# Altium schematic symbol library Molex-Microfit.SCHLIB: 36 symbols
Pins are listed as number, name and electrical type; pins without a type are passive.

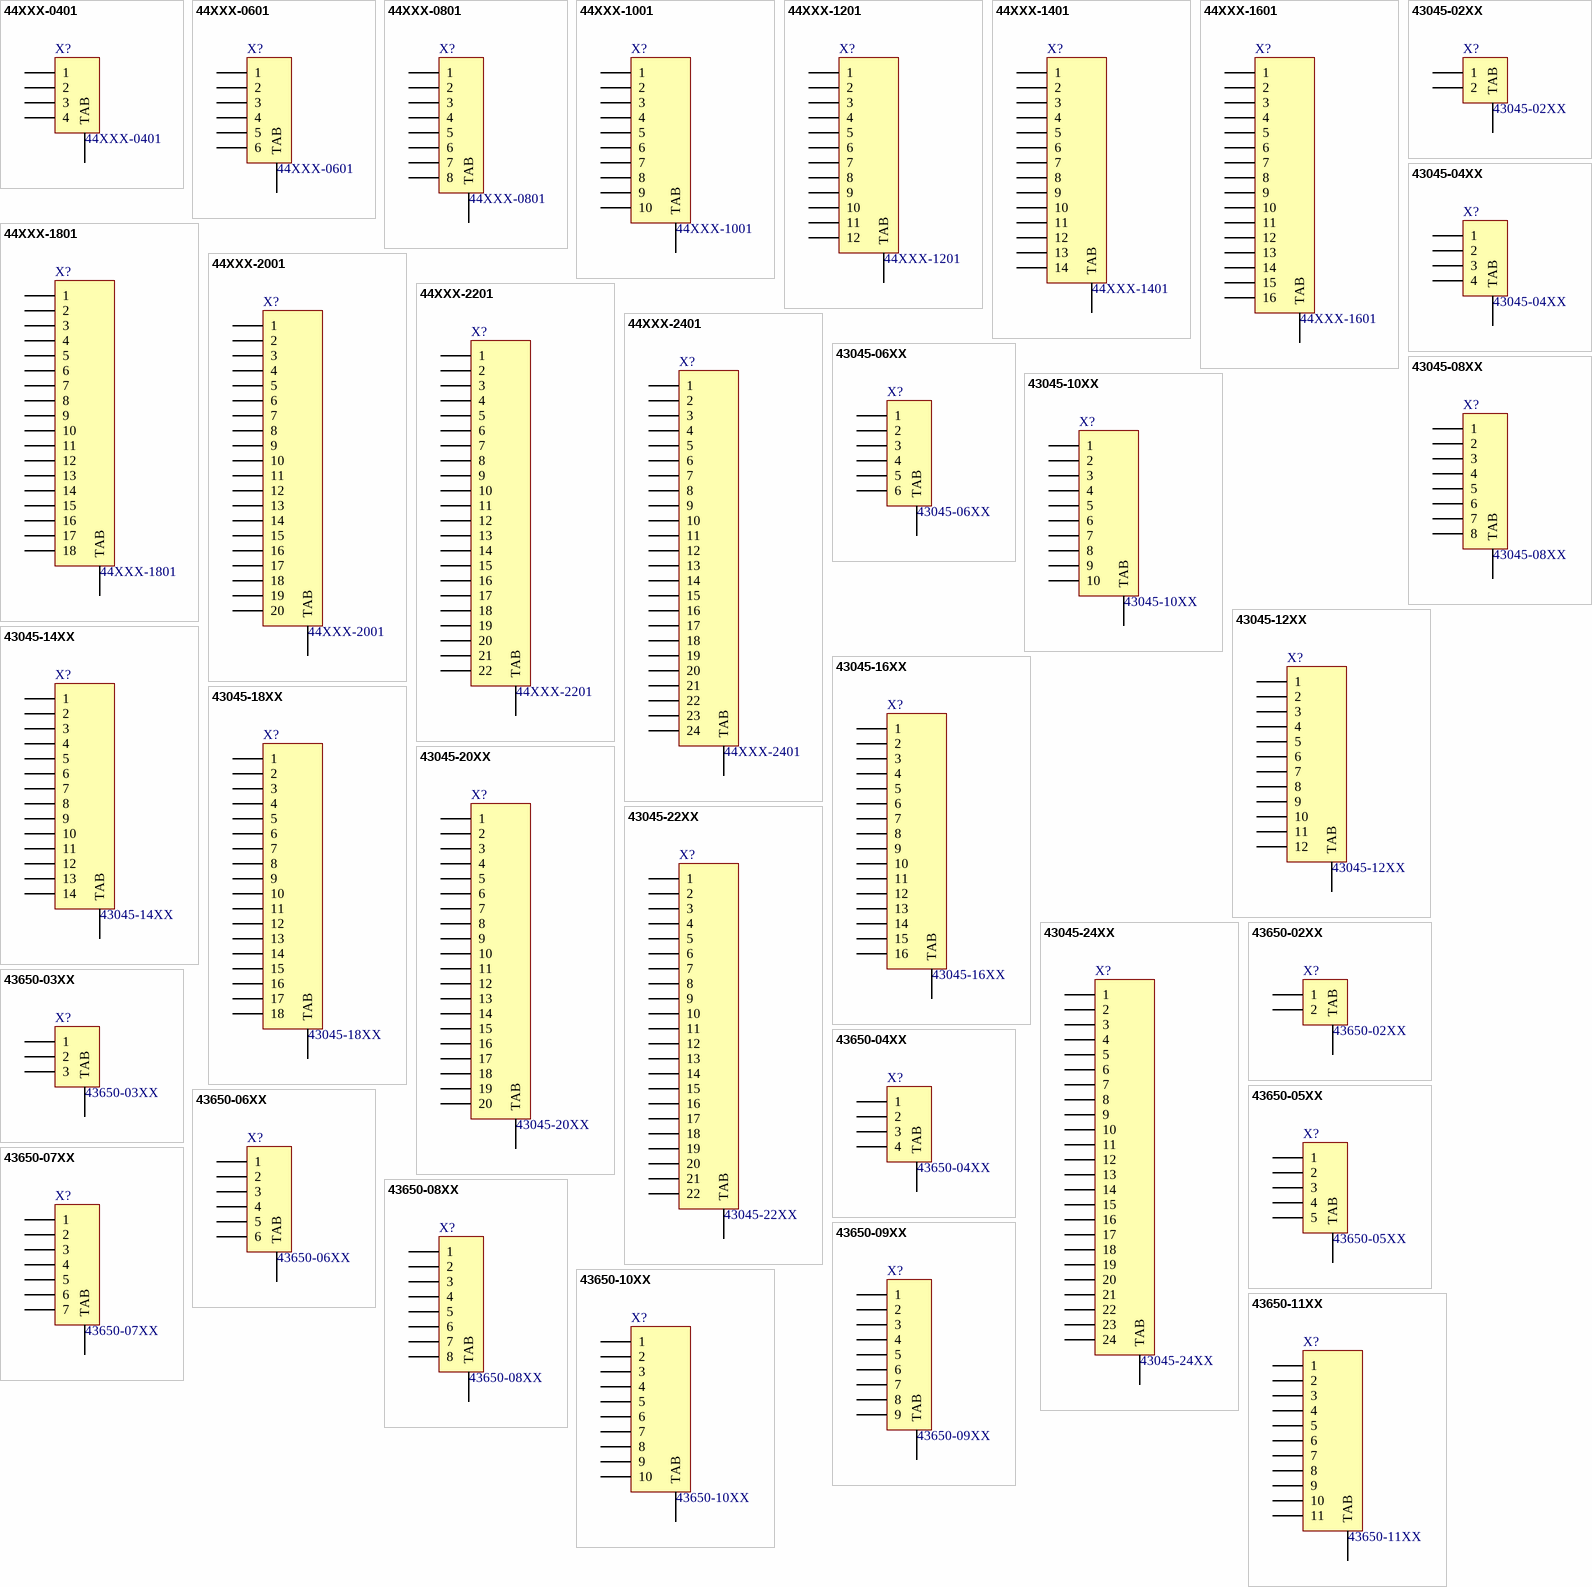
[diagram p0: symbols 44XXX-0401 to 43650-11XX]

## 44XXX-0401
designator X?
Manuf1: Molex LCC; Populated: Yes; LifeCycle: Checked; Manuf1Partnumber: 44XXX-0401; ROHS: Yes; Value: 44XXX-0401
footprint 44428-0401
footprint 44432-0401
footprint 44764-0401
footprint 44769-0401
footprint 44914-0401
pins: P$1 1, P$2 2, P$3 3, P$4 4, TAB

## 44XXX-0601
designator X?
Manuf1: Molex LCC; Populated: Yes; LifeCycle: Checked; Manuf1Partnumber: 44XXX-0601; ROHS: Yes; Value: 44XXX-0601
footprint 44428-0601
footprint 44432-0601
footprint 44764-0601
footprint 44769-0601
footprint 44914-0601
pins: P$1 1, P$2 2, P$3 3, P$4 4, P$5 5, P$6 6, TAB

## 44XXX-0801
designator X?
Manuf1: Molex LCC; Populated: Yes; LifeCycle: Checked; Manuf1Partnumber: 44XXX-0801; ROHS: Yes; Value: 44XXX-0801
footprint 44428-0801
footprint 44432-0801
footprint 44764-0801
footprint 44769-0801
footprint 44914-0801
pins: P$1 1, P$2 2, P$3 3, P$4 4, P$5 5, P$6 6, P$7 7, P$8 8, TAB

## 44XXX-1001
designator X?
Manuf1: Molex LCC; Populated: Yes; LifeCycle: Checked; Manuf1Partnumber: 44XXX-1001; ROHS: Yes; Value: 44XXX-1001
footprint 44428-1001
footprint 44432-1001
footprint 44764-1001
footprint 44769-1001
footprint 44914-1001
pins: P$1 1, P$2 2, P$3 3, P$4 4, P$5 5, P$6 6, P$7 7, P$8 8, P$9 9, P$10 10, TAB

## 44XXX-1201
designator X?
Manuf1: Molex LCC; Populated: Yes; LifeCycle: Checked; Manuf1Partnumber: 44XXX-1201; ROHS: Yes; Value: 44XXX-1201
footprint 44428-1201
footprint 44432-1201
footprint 44764-1201
footprint 44769-1201
footprint 44914-1201
pins: P$1 1, P$2 2, P$3 3, P$4 4, P$5 5, P$6 6, P$7 7, P$8 8, P$9 9, P$10 10, P$11 11, P$12 12, TAB

## 44XXX-1401
designator X?
Manuf1: Molex LCC; Populated: Yes; LifeCycle: Checked; Manuf1Partnumber: 44XXX-1401; ROHS: Yes; Value: 44XXX-1401
footprint 44428-1401
footprint 44432-1401
footprint 44764-1401
footprint 44769-1401
footprint 44914-1401
pins: P$1 1, P$2 2, P$3 3, P$4 4, P$5 5, P$6 6, P$7 7, P$8 8, P$9 9, P$10 10, P$11 11, P$12 12, P$13 13, P$14 14, TAB

## 44XXX-1601
designator X?
Manuf1: Molex LCC; Populated: Yes; LifeCycle: Checked; Manuf1Partnumber: 44XXX-1601; ROHS: Yes; Value: 44XXX-1601
footprint 44428-1601
footprint 44432-1601
footprint 44764-1601
footprint 44769-1601
footprint 44914-1601
pins: P$1 1, P$2 2, P$3 3, P$4 4, P$5 5, P$6 6, P$7 7, P$8 8, P$9 9, P$10 10, P$11 11, P$12 12, P$13 13, P$14 14, P$15 15, P$16 16, TAB

## 44XXX-1801
designator X?
Manuf1: Molex LCC; Populated: Yes; LifeCycle: Checked; Manuf1Partnumber: 44XXX-1801; ROHS: Yes; Value: 44XXX-1801
footprint 44428-1801
footprint 44432-1801
footprint 44764-1801
footprint 44769-1801
footprint 44914-1801
pins: P$1 1, P$2 2, P$3 3, P$4 4, P$5 5, P$6 6, P$7 7, P$8 8, P$9 9, P$10 10, P$11 11, P$12 12, P$13 13, P$14 14, P$15 15, P$16 16, P$17 17, P$18 18, TAB

## 44XXX-2001
designator X?
Manuf1: Molex LCC; Populated: Yes; LifeCycle: Checked; Manuf1Partnumber: 44XXX-2001; ROHS: Yes; Value: 44XXX-2001
footprint 44428-2001
footprint 44432-2001
footprint 44764-2001
footprint 44769-2001
footprint 44914-2001
pins: P$1 1, P$2 2, P$3 3, P$4 4, P$5 5, P$6 6, P$7 7, P$8 8, P$9 9, P$10 10, P$11 11, P$12 12, P$13 13, P$14 14, P$15 15, P$16 16, P$17 17, P$18 18, P$19 19, P$20 20, TAB

## 44XXX-2201
designator X?
Manuf1: Molex LCC; Populated: Yes; LifeCycle: Checked; Manuf1Partnumber: 44XXX-2201; ROHS: Yes; Value: 44XXX-2201
footprint 44428-2201
footprint 44432-2201
footprint 44764-2201
footprint 44769-2201
footprint 44914-2201
pins: P$1 1, P$2 2, P$3 3, P$4 4, P$5 5, P$6 6, P$7 7, P$8 8, P$9 9, P$10 10, P$11 11, P$12 12, P$13 13, P$14 14, P$15 15, P$16 16, P$17 17, P$18 18, P$19 19, P$20 20, P$21 21, P$22 22, TAB

## 44XXX-2401
designator X?
Manuf1: Molex LCC; Populated: Yes; LifeCycle: Checked; Manuf1Partnumber: 44XXX-2401; ROHS: Yes; Value: 44XXX-2401
footprint 44428-2401
footprint 44432-2401
footprint 44764-2401
footprint 44769-2401
footprint 44914-2401
pins: P$1 1, P$2 2, P$3 3, P$4 4, P$5 5, P$6 6, P$7 7, P$8 8, P$9 9, P$10 10, P$11 11, P$12 12, P$13 13, P$14 14, P$15 15, P$16 16, P$17 17, P$18 18, P$19 19, P$20 20, P$21 21, P$22 22, P$23 23, P$24 24, TAB

## 43045-02XX
designator X?
2 Positions Header,  Connector; Manuf1: Molex LCC; Populated: Yes; LifeCycle: Checked; Manuf1Partnumber: 43045-02XX; ROHS: Yes; Value: 43045-02XX
footprint 43045-0200
footprint 43045-0206
footprint 43045-0209
footprint 43045-0212
footprint 43045-0215
footprint 43045-0218
pins: P$1 1, P$2 2, TAB

## 43045-04XX
designator X?
4 Positions Header,  Connector; Manuf1: Molex LCC; Populated: Yes; LifeCycle: Checked; Manuf1Partnumber: 43045-04XX; ROHS: Yes; Value: 43045-04XX
footprint 43045-0400
footprint 43045-0406
footprint 43045-0409
footprint 43045-0412
footprint 43045-0415
footprint 43045-0418
pins: P$1 1, P$2 2, P$3 3, P$4 4, TAB

## 43045-06XX
designator X?
4 Positions Header,  Connector; Manuf1: Molex LCC; Populated: Yes; LifeCycle: Checked; Manuf1Partnumber: 43045-06XX; ROHS: Yes; Value: 43045-06XX
footprint 43045-0600
footprint 43045-0606
footprint 43045-0609
footprint 43045-0612
footprint 43045-0615
footprint 43045-0618
pins: P$1 1, P$2 2, P$3 3, P$4 4, P$5 5, P$6 6, TAB

## 43045-08XX
designator X?
8 Positions Header,  Connector; Manuf1: Molex LCC; Populated: Yes; LifeCycle: Checked; Manuf1Partnumber: 43045-08XX; ROHS: Yes; Value: 43045-08XX
footprint 43045-0800
footprint 43045-0806
footprint 43045-0809
footprint 43045-0812
footprint 43045-0815
footprint 43045-0818
pins: P$1 1, P$2 2, P$3 3, P$4 4, P$5 5, P$6 6, P$7 7, P$8 8, TAB

## 43045-10XX
designator X?
10 Positions Header,  Connector; Manuf1: Molex LCC; Populated: Yes; LifeCycle: Checked; Manuf1Partnumber: 43045-10XX; ROHS: Yes; Value: 43045-10XX
footprint 43045-1000
footprint 43045-1006
footprint 43045-1009
footprint 43045-1012
footprint 43045-1015
footprint 43045-1018
pins: P$1 1, P$2 2, P$3 3, P$4 4, P$5 5, P$6 6, P$7 7, P$8 8, P$9 9, P$10 10, TAB

## 43045-12XX
designator X?
12 Positions Header,  Connector; Manuf1: Molex LCC; Populated: Yes; LifeCycle: Checked; Manuf1Partnumber: 43045-12XX; ROHS: Yes; Value: 43045-12XX
footprint 43045-1200
footprint 43045-1206
footprint 43045-1209
footprint 43045-1212
footprint 43045-1218
footprint 43045-1215
pins: P$1 1, P$2 2, P$3 3, P$4 4, P$5 5, P$6 6, P$7 7, P$8 8, P$9 9, P$10 10, P$11 11, P$12 12, TAB

## 43045-14XX
designator X?
14 Positions Header,  Connector; Manuf1: Molex LCC; Populated: Yes; LifeCycle: Checked; Manuf1Partnumber: 43045-14XX; ROHS: Yes; Value: 43045-14XX
footprint 43045-1400
footprint 43045-1406
footprint 43045-1409
footprint 43045-1415
footprint 43045-1418
footprint 43045-1412
pins: P$1 1, P$2 2, P$3 3, P$4 4, P$5 5, P$6 6, P$7 7, P$8 8, P$9 9, P$10 10, P$11 11, P$12 12, P$13 13, P$14 14, TAB

## 43045-16XX
designator X?
16 Positions Header,  Connector; Manuf1: Molex LCC; Populated: Yes; LifeCycle: Checked; Manuf1Partnumber: 43045-16XX; ROHS: Yes; Value: 43045-16XX
footprint 43045-1600
footprint 43045-1606
footprint 43045-1609
footprint 43045-1612
footprint 43045-1615
footprint 43045-1618
pins: P$1 1, P$2 2, P$3 3, P$4 4, P$5 5, P$6 6, P$7 7, P$8 8, P$9 9, P$10 10, P$11 11, P$12 12, P$13 13, P$14 14, P$15 15, P$16 16, TAB

## 43045-18XX
designator X?
18 Positions Header,  Connector; Manuf1: Molex LCC; Populated: Yes; LifeCycle: Checked; Manuf1Partnumber: 43045-18XX; ROHS: Yes; Value: 43045-18XX
footprint 43045-1800
footprint 43045-1806
footprint 43045-1809
footprint 43045-1812
footprint 43045-1815
footprint 43045-1818
pins: P$1 1, P$2 2, P$3 3, P$4 4, P$5 5, P$6 6, P$7 7, P$8 8, P$9 9, P$10 10, P$11 11, P$12 12, P$13 13, P$14 14, P$15 15, P$16 16, P$17 17, P$18 18, TAB

## 43045-20XX
designator X?
20 Positions Header,  Connector; Manuf1: Molex LCC; Populated: Yes; LifeCycle: Checked; Manuf1Partnumber: 43045-20XX; ROHS: Yes; Value: 43045-20XX
footprint 43045-2000
footprint 43045-2006
footprint 43045-2009
footprint 43045-2012
footprint 43045-2015
footprint 43045-2018
pins: P$1 1, P$2 2, P$3 3, P$4 4, P$5 5, P$6 6, P$7 7, P$8 8, P$9 9, P$10 10, P$11 11, P$12 12, P$13 13, P$14 14, P$15 15, P$16 16, P$17 17, P$18 18, P$19 19, P$20 20, TAB

## 43045-22XX
designator X?
22 Positions Header,  Connector; Manuf1: Molex LCC; Populated: Yes; LifeCycle: Checked; Manuf1Partnumber: 43045-22XX; ROHS: Yes; Value: 43045-22XX
footprint 43045-2200
footprint 43045-2206
footprint 43045-2209
footprint 43045-2212
footprint 43045-2215
footprint 43045-2218
pins: P$1 1, P$2 2, P$3 3, P$4 4, P$5 5, P$6 6, P$7 7, P$8 8, P$9 9, P$10 10, P$11 11, P$12 12, P$13 13, P$14 14, P$15 15, P$16 16, P$17 17, P$18 18, P$19 19, P$20 20, P$21 21, P$22 22, TAB

## 43045-24XX
designator X?
24 Positions Header,  Connector; Manuf1: Molex LCC; Populated: Yes; LifeCycle: Checked; Manuf1Partnumber: 43045-24XX; ROHS: Yes; Value: 43045-24XX
footprint 43045-2400
footprint 43045-2406
footprint 43045-2409
footprint 43045-2412
footprint 43045-2415
footprint 43045-2418
pins: P$1 1, P$2 2, P$3 3, P$4 4, P$5 5, P$6 6, P$7 7, P$8 8, P$9 9, P$10 10, P$11 11, P$12 12, P$13 13, P$14 14, P$15 15, P$16 16, P$17 17, P$18 18, P$19 19, P$20 20, P$21 21, P$22 22, P$23 23, P$24 24, TAB

## 43650-02XX
designator X?
2 Positions Header, Connector 0.118" (3.00mm); Manuf1: Molex LCC; Populated: Yes; LifeCycle: Checked; Manuf1Partnumber: 43650-02XX; ROHS: Yes; Value: 43650-02XX
footprint 43650-0200
footprint 43650-0209
footprint 43650-0212
footprint 43650-0215
footprint 43650-0221
footprint 43650-0224
pins: P$1 1, P$2 2, TAB

## 43650-03XX
designator X?
3 Positions Header, Connector 0.118" (3.00mm); Manuf1: Molex LCC; Populated: Yes; LifeCycle: Checked; Manuf1Partnumber: 43650-03XX; ROHS: Yes; Value: 43650-03XX
footprint 43650-0300
footprint 43650-0309
footprint 43650-0312
footprint 43650-0315
footprint 43650-0321
footprint 43650-0324
pins: P$1 1, P$2 2, P$3 3, TAB

## 43650-04XX
designator X?
4 Positions Header, Connector 0.118" (3.00mm); Manuf1: Molex LCC; Populated: Yes; LifeCycle: Checked; Manuf1Partnumber: 43650-04XX; ROHS: Yes; Value: 43650-04XX
footprint 43650-0400
footprint 43650-0409
footprint 43650-0412
footprint 43650-0415
footprint 43650-0421
footprint 43650-0424
pins: P$1 1, P$2 2, P$3 3, P$4 4, TAB

## 43650-05XX
designator X?
5 Positions Header, Connector 0.118" (3.00mm); Manuf1: Molex LCC; Populated: Yes; LifeCycle: Checked; Manuf1Partnumber: 43650-05XX; ROHS: Yes; Value: 43650-05XX
footprint 43650-0500
footprint 43650-0509
footprint 43650-0512
footprint 43650-0515
footprint 43650-0521
footprint 43650-0524
pins: P$1 1, P$2 2, P$3 3, P$4 4, P$5 5, TAB

## 43650-06XX
designator X?
6 Positions Header, Connector 0.118" (3.00mm); Manuf1: Molex LCC; Populated: Yes; Value: 43650-06XX; Manuf1Partnumber: 43650-06XX; ROHS: Yes; LifeCycle: Checked
footprint 43650-0600
footprint 43650-0609
footprint 43650-0612
footprint 43650-0615
footprint 43650-0621
footprint 43650-0624
pins: P$1 1, P$2 2, P$3 3, P$4 4, P$5 5, P$6 6, TAB

## 43650-07XX
designator X?
7 Positions Header Connector 0.118" (3.00mm); Manuf1: Molex LCC; Populated: Yes; LifeCycle: Checked; Manuf1Partnumber: 43650-07XX; ROHS: Yes; Value: 43650-07XX
footprint 43650-0700
footprint 43650-0709
footprint 43650-0712
footprint 43650-0715
footprint 43650-0721
footprint 43650-0724
pins: P$1 1, P$2 2, P$3 3, P$4 4, P$5 5, P$6 6, P$7 7, TAB

## 43650-08XX
designator X?
8 Positions Header, Connector 0.118" (3.00mm); Manuf1: Molex LCC; Populated: Yes; LifeCycle: Checked; Manuf1Partnumber: 43650-08XX; ROHS: Yes; Value: 43650-08XX
footprint 43650-0800
footprint 43650-0809
footprint 43650-0812
footprint 43650-0815
footprint 43650-0821
footprint 43650-0824
pins: P$1 1, P$2 2, P$3 3, P$4 4, P$5 5, P$6 6, P$7 7, P$8 8, TAB

## 43650-09XX
designator X?
9 Positions Header, Connector 0.118" (3.00mm); Manuf1: Molex LCC; Populated: Yes; LifeCycle: Checked; Manuf1Partnumber: 43650-09XX; ROHS: Yes; Value: 43650-09XX
footprint 43650-0900
footprint 43650-0909
footprint 43650-0912
footprint 43650-0915
footprint 43650-0921
footprint 43650-0924
pins: P$1 1, P$2 2, P$3 3, P$4 4, P$5 5, P$6 6, P$7 7, P$8 8, P$9 9, TAB

## 43650-10XX
designator X?
10 Positions Header, Connector 0.118" (3.00mm); Manuf1: Molex LCC; Populated: Yes; LifeCycle: Checked; Manuf1Partnumber: 43650-10XX; ROHS: Yes; Value: 43650-10XX
footprint 43650-1000
footprint 43650-1009
footprint 43650-1012
footprint 43650-1015
footprint 43650-1021
footprint 43650-1024
pins: P$1 1, P$2 2, P$3 3, P$4 4, P$5 5, P$6 6, P$7 7, P$8 8, P$9 9, P$10 10, TAB

## 43650-11XX
designator X?
11 Positions Header, Connector 0.118" (3.00mm); Manuf1: Molex LCC; Populated: Yes; LifeCycle: Checked; Manuf1Partnumber: 43650-11XX; ROHS: Yes; Value: 43650-11XX
footprint 43650-1100
footprint 43650-1109
footprint 43650-1112
footprint 43650-1115
footprint 43650-1121
footprint 43650-1124
pins: P$1 1, P$2 2, P$3 3, P$4 4, P$5 5, P$6 6, P$7 7, P$8 8, P$9 9, P$10 10, P$11 11, TAB

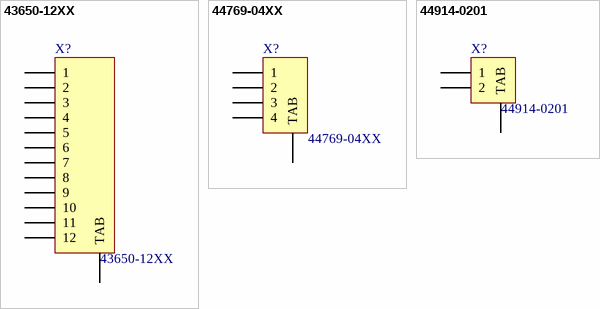
[diagram p1: symbols 43650-12XX to 44914-0201]

## 43650-12XX
designator X?
12 Positions Header, Connector 0.118" (3.00mm); Manuf1: Molex LCC; Populated: Yes; LifeCycle: Checked; Manuf1Partnumber: 43650-12XX; ROHS: Yes; Value: 43650-12XX
footprint 43650-1200
footprint 43650-1209
footprint 43650-1212
footprint 43650-1215
footprint 43650-1221
footprint 43650-1224
pins: P$1 1, P$2 2, P$3 3, P$4 4, P$5 5, P$6 6, P$7 7, P$8 8, P$9 9, P$10 10, P$11 11, P$12 12, TAB

## 44769-04XX
designator X?
4 Positions Header, Connector 0.118" (3.00mm); Manufacturer: Molex; Manufacturer Part Number: 44769-0401; Number of Positions: 4; Current Rating: 5A; Connector Type: Receptacle,Socket; Gender: Male; Contact Resistance: 100mR; Voltage Rating: 250V; Pitch: 3mm; Row Spacing: 0.118inch; Glow Wire Compliant: Non-compliant; Supplier 1: Digi-Key; Stock 1: 2320; Pricing 1: 1 = 2,35000, 10 = 2,13200, 100 = 1,82700, 500 = 1,52250, 1000 = 1,30500, 5000 = 1,15710 (USD); RoHS: Yes; Mount: Through Hole; Color: Black; Housing Color: Black; Housing Material: Polymer; Contact Material: Bronze; Contact Plating: Gold; Min Operating Temperature: -40°C; Max Operating Temperature: 105°C; Number of Rows: 2; Packaging: Tray; Orientation: Straight; Termination: Solder; Number of Contacts: 4; Number of Circuits: 4; Package Quantity: 1; Max Voltage Rating (AC): 250V; Contact Gender: Female; REACH SVHC: No SVHC; Lead Free: Contains Lead; Halogen Free: Low Halogen; ComponentLink1URL: http://www.mouser.com/ds/2/276/0447690402_PCB_RECEPTACLES-143361.pdf?src-supplier=Mouser; ComponentLink1Description: http://www.mouser.com/ds/2/276/0447690402_PCB_RECEPTACLES-143361.pdf?src-supplier=Mouser; ComponentLink2URL: http://www.farnell.com/datasheets/1630328.pdf?src-supplier=Element14; ComponentLink2Description: http://www.farnell.com/datasheets/1630328.pdf?src-supplier=Element14; ComponentLink3URL: https://www.molex.com/pdm_docs/ps/PS-44300-001.pdf?src-supplier=Digi-Key; ComponentLink3Description: https://www.molex.com/pdm_docs/ps/PS-44300-001.pdf?src-supplier=Digi-Key; ComponentLink4URL: http://www.onlinecomponents.com/productFiles/mf-MOL/181810447690402_pcb_receptacles.pdf?src-supplier=Onlinecomponents.com; ComponentLink4Description: http://www.onlinecomponents.com/productFiles/mf-MOL/181810447690402_pcb_receptacles.pdf?src-supplier=Onlinecomponents.com; Value: 44769-04XX; Supplier Part Number 1: WM1953-ND
footprint 44769-0401
pins: P$1 1, P$2 2, P$3 3, P$4 4, TAB

## 44914-0201
designator X?
2 Positions Header, Shrouded Connector Through Hole Tin; Manuf1: Molex LCC; Populated: Yes; LifeCycle: Checked; Manuf1Partnumber: 44914-0201; ROHS: Yes; Value: 44914-0201; Supplier 1: Digi-Key; Supplier 2: Mouser; Supplier Part Number 1: 0449140201-ND; Supplier Part Number 2: 538-44914-0201
footprint 44914-0201
pins: P$1 1, P$2 2, TAB